# Altium schematic symbol library n-mosfet-dual-gate-DSG1G2.Schlib: 1 symbol
Pins are listed as number, name and electrical type; pins without a type are passive.

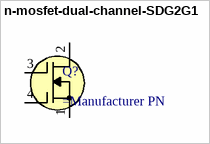
[diagram p0: symbol n-mosfet-dual-channel-SDG2G1]

## n-mosfet-dual-channel-SDG2G1
designator Q?
N-Channel MOSFET GDS w/ Body Diode 3 Terminal,
pins: 1 S, 2 D, 3 G2, 4 G1